# Altium footprint library Transistors.PcbLib: 13 footprints
Each footprint in its own frame and in the unit in brackets; x right, y up, seen from the top. Pads: shape width x height; smd on the part's side, far side on the other; paste and mask are expansions set on the pad; w line width, h text height; cw(c..) or ccw(c..) is an arc to the next point about the centre after c.
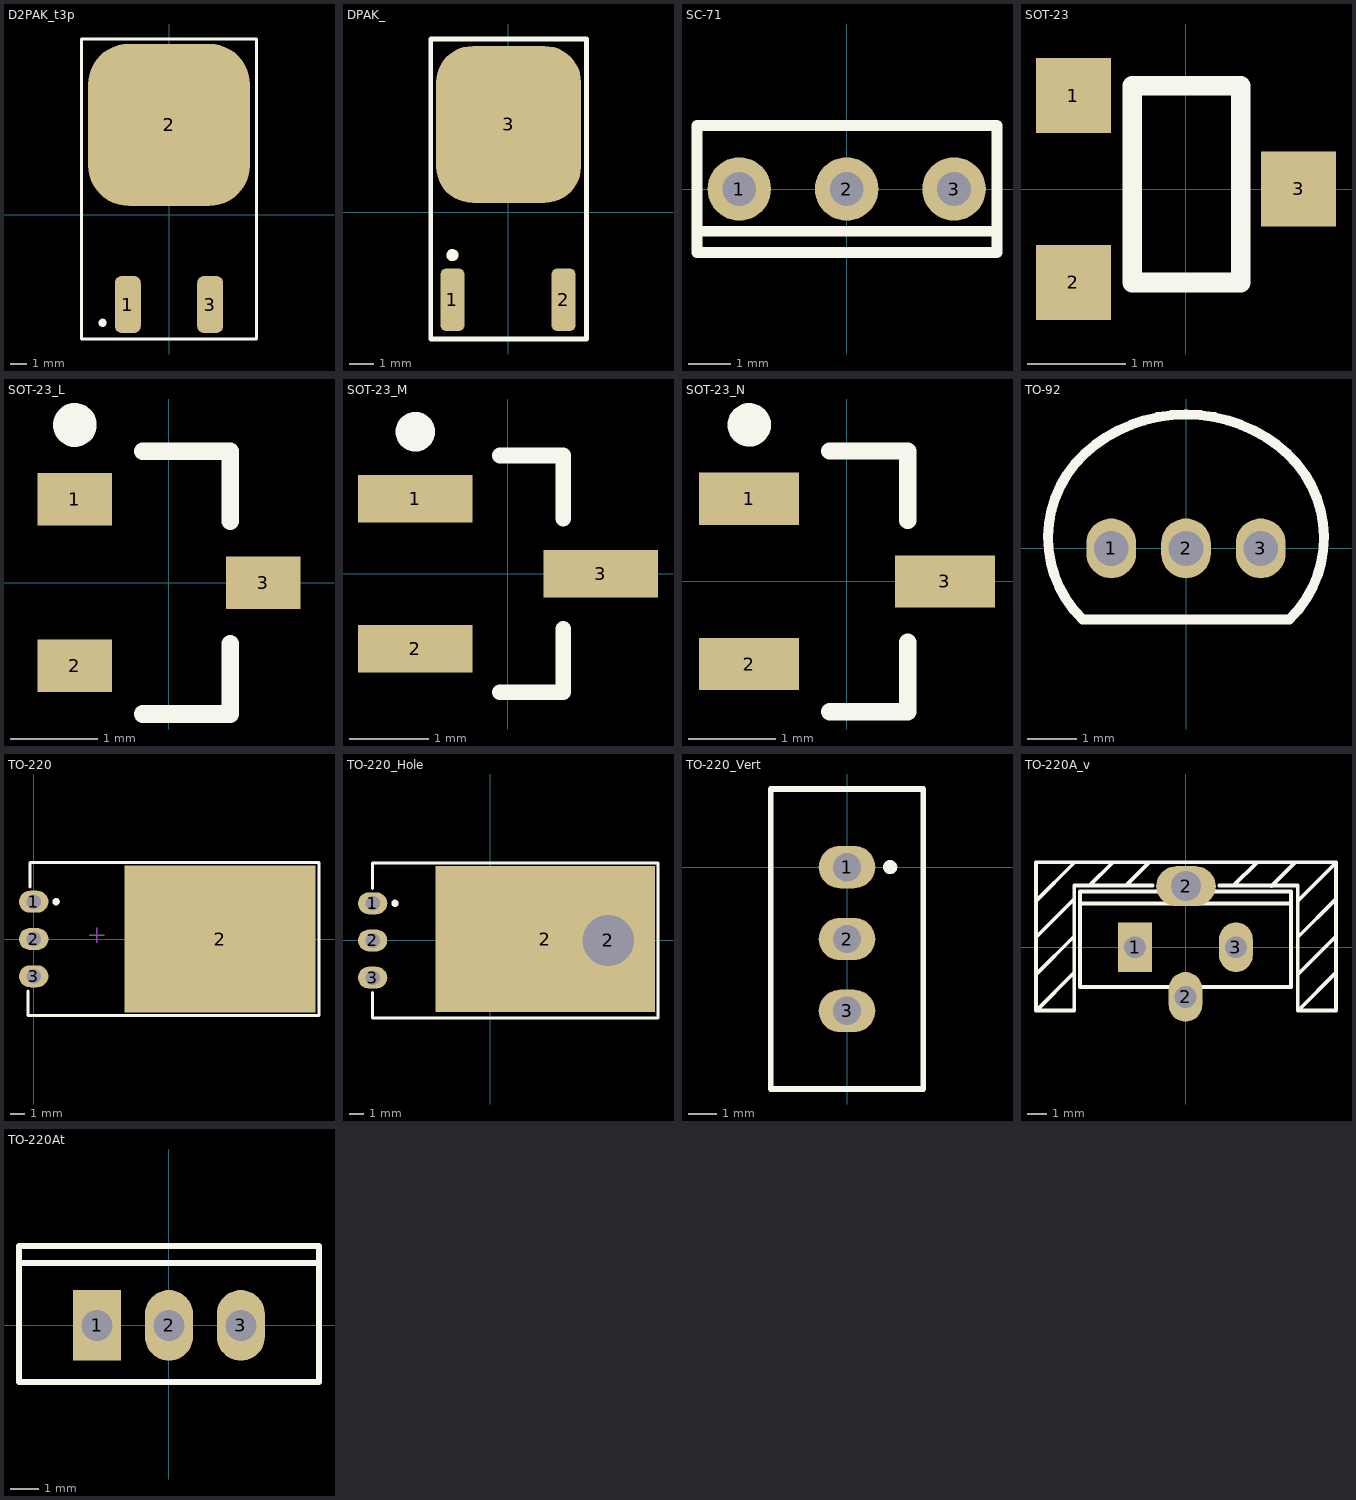
[diagram p0: the footprints below, top view; thin cyan lines are the x and y axes]

## D2PAK_t3p [mm] "D2-PAK; 5 Leads; Body 14.7 (inc. leads) x 10.2 mm (LxW max)"
height 4.58
pads (3):
  rrect50% 1.6x3.5 smd: 1(-2.54,-5.537) 3(2.54,-5.537)
  rrect50% 10x10 smd: 2(0,5.538)
Top Overlay:
  circle w0.25: c-4.1,-6.662 r0.125
  lines w0.2: -5.4,-7.662 5.4,-7.662 5.4,10.838 -5.4,10.838 -5.4,-7.662
3D body: height 4.88, standoff -0.13, extent -5.08,-6.178 5.08,9.085

## DPAK_ [mm]
pads (3):
  rrect50% 1x2.6 smd: 1(-2.3,-3.631) 2(2.3,-3.631)
  rrect50% 6x6.5 smd: 3(0.025,3.631)
Top Overlay:
  circle w0.25: c-2.3,-1.781 r0.125
  lines w0.2: -3.2,-5.256 3.25,-5.256 3.25,7.169 -3.2,7.169 -3.2,-5.256
3D body: height 2.34, standoff -0.07, extent -3.27,-4.042 3.27,5.896

## SC-71 [mm]
pads (3):
  round 1.5 hole 0.8: 1(-2.54,0) 2(0,0) 3(2.54,0)
Top Overlay:
  lines w0.254: -3.54,-1 3.556,-1 ; -3.54,-1.5 -3.54,0 -3.54,1.5 3.556,1.5 3.556,-1.5 -3.54,-1.5
3D body: height 5.3, standoff -4.7, extent -3.6,-1.5 3.6,1.5

## SOT-23 [mm]
pads (3):
  rect 0.76x0.76 smd: 1(-1.145,0.95) 2(-1.145,-0.95) 3(1.145,0)
Top Overlay:
  lines w0.2: -0.545,-0.95 -0.545,1.05 0.555,1.05 0.555,-0.95 -0.545,-0.95
3D body: height 1.08, standoff 0, extent -1.32,-1.5 1.32,1.5

## SOT-23_L [mm] "SOT23, 3-Leads, Body 2.9x1.3mm, Pitch 0.95mm, Lead Span 2.3mm, IPC High Density"
height 1.11
pads (3):
  rect 0.85x0.6 smd: 1(-1.075,0.95) 2(-1.075,-0.95) 3(1.075,0)
Top Overlay:
  circle w0.25: c-1.075,1.8 r0.125
  lines w0.2: -0.3,-1.5 0.7,-1.5 0.7,-0.7 ; -0.3,1.5 0.7,1.5 0.7,0.7
3D body: height 1.08, standoff 0, extent -1.32,-1.5 1.32,1.5

## SOT-23_M [mm] "SOT23, 3-Leads, Body 2.9x1.3mm, Pitch 0.95mm, Lead Span 2.3mm, IPC Low Density"
height 1.11
pads (3):
  rect 1.45x0.6 smd: 1(-1.175,0.95) 2(-1.175,-0.95) 3(1.175,0)
Top Overlay:
  circle w0.25: c-1.175,1.8 r0.125
  lines w0.2: -0.1,-1.5 0.7,-1.5 0.7,-0.7 ; -0.1,1.5 0.7,1.5 0.7,0.7
3D body: height 1.08, standoff 0, extent -1.32,-1.5 1.32,1.5

## SOT-23_N [mm] "SOT23, 3-Leads, Body 2.9x1.3mm, Pitch 0.95mm, Lead Span 2.3mm, IPC Medium Density"
height 1.11
pads (3):
  rect 1.15x0.6 smd: 1(-1.125,0.95) 2(-1.125,-0.95) 3(1.125,0)
Top Overlay:
  circle w0.25: c-1.125,1.8 r0.125
  lines w0.2: -0.2,-1.5 0.7,-1.5 0.7,-0.7 ; -0.2,1.5 0.7,1.5 0.7,0.7
3D body: height 1.08, standoff 0, extent -1.32,-1.5 1.32,1.5

## TO-92 [mm]
pads (3):
  oval 1x1.2 hole 0.7 paste+0: 1(-1.5,0) 2(0,0) 3(1.5,0)
Top Overlay:
  lines w0.2: -2.075,-1.428 cw(c-0.468,0.218) -2.048,1.889 cw(c-0.011,-0.313) -0.011,2.687 ; -2.069,-1.431 2.069,-1.431 ; 0.011,2.687 cw(c0.011,-0.313) 2.048,1.889 cw(c0.468,0.218) 2.075,-1.428
3D body: height 10, standoff -3, extent -2.613,-1.59 2.613,2.613

## TO-220 [mm]
pads (4):
  oval 2x1.5 hole 1: 1(0,2.54) 2(0,0) 3(0,-2.54)
  rect 13x10 smd: 2(12.7,0)
Top Overlay:
  circle w0.25: c1.526,2.54 r0.125
  lines w0.2: -0.381,-3.556 -0.381,-5.207 19.431,-5.207 19.431,5.207 -0.254,5.207 -0.254,3.556
Mechanical 15:
  lines w0.1: 3.8,0.26 4.8,0.26 ; 4.3,-0.24 4.3,0.76

## TO-220_Hole [mm]
pads (5):
  oval 2x1.5 hole 1: 1(-8.05,2.54) 2(-8.05,0) 3(-8.05,-2.54)
  rect 15x10 smd: 2(3.75,0.1)
  round 5 hole 3.5: 2(8.05,0)
Top Overlay:
  circle w0.25: c-6.524,2.54 r0.125
  lines w0.2: -8.05,-3.556 -8.05,-5.3 11.45,-5.3 11.45,5.3 -8.05,5.3 -8.05,3.556
3D body: height 4.2, standoff -3, extent -8.295,-5.1 11.195,5.06

## TO-220_Vert [mm]
pads (3):
  oval 2x1.5 hole 1: 1(0,0) 2(0,-2.54) 3(0,-5.08)
Top Overlay:
  circle w0.25: c1.526,0 r0.125
  lines w0.2: -2.7,-7.84 -2.7,2.76 2.7,2.76 2.7,-7.84 -2.7,-7.84

## TO-220A_v [mm] "TO, Thru-Hole, Vertical, Heatsink Mounted; 3 In-Line Leads; Pitch 2.54 mm"
height 19.7
pads (4):
  rect 1.7x2.5 hole 1.1: 1(-2.54,0)
  oval 1.7x2.5 hole 1.1: 2(0,-2.5) 3(2.54,0)
  oval 3x2 hole 1.5: 2(0.025,3.075)
Top Overlay:
  lines w0.2: -7.525,0.5 -5.625,2.4 ; -7.525,2.325 -5.625,4.225 ; -7.5,-1.35 -5.6,0.55 ; -5.6,-1.275 -7.5,-3.175 -7.525,-3.175 ; -5.3,2.2 5.3,2.2 ; -4.825,3.1 -3.687,4.237 ; -3,3.1 -1.837,4.263 ; -1.65,3.1 -5.6,3.1 -5.6,-3.175 -7.525,-3.175 ; 1.7,3.1 5.65,3.1 5.65,-3.175 7.575,-3.175 7.575,4.275 -7.525,4.275 -7.525,-3.175 ; 2.425,3.1 3.588,4.263 ; 4.325,3.075 5.488,4.238 ; 5.65,0.5 7.55,2.4 ; 5.65,2.325 7.55,4.225 ; 5.675,-3.175 7.575,-1.275 ; 5.675,-1.35 7.575,0.55 ; -5.3,-2 5.3,-2 5.3,2.8 -5.3,2.8 -5.3,-2
3D body: height 26.52, standoff 7.47, extent -7.366,-3.075 7.516,4.111
3D body: height 23.21, standoff -3.95, extent -5.2,-2.9 5.2,2.841

## TO-220At [mm] "TO, Thru-Hole, Vertical, Heatsink Mounted; 3 In-Line Leads; Pitch 2.54 mm"
height 19.7
pads (3):
  rect 1.7x2.5 hole 1.1: 1(-2.54,0)
  oval 1.7x2.5 hole 1.1: 2(0,0) 3(2.54,0)
Top Overlay:
  lines w0.2: -5.3,2.2 5.3,2.2 ; -5.3,-2 5.3,-2 5.3,2.8 -5.3,2.8 -5.3,-2
3D body: height 22.8, standoff -5.98, extent -4.95,-2 4.95,2.5